# EAGLE library part 1778599 (library KVB-connectors)
6 Position Terminal Block Header Male Pins Shrouded (4 Side) 0.098" (2.50mm) Vertical Through Hole
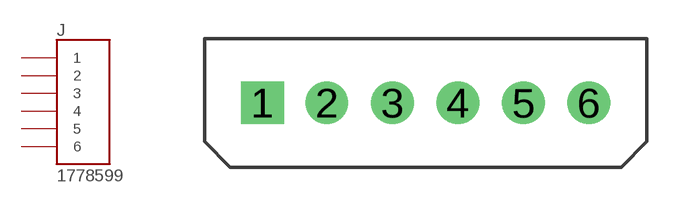
[diagram p10: symbol with the pads of 1778599; footprint 1778599]

Designator prefix J

## 1778599 (MAN-PART_NUM: 1778599; MANUFACTURER: Phoenix Contact)  [1778599]
1  1
2  2
3  3
4  4
5  5
6  6

## Footprint 1778599 (pad centres in mm)
drill 1.1 square: 1 -6.33,0
drill 1.1: 2 -3.83,0; 3 -1.29,0; 4 1.25,0; 5 3.79,0; 6 6.33,0